# Altium footprint library LTE_GPS_433_V1.0.PcbLib: 60 footprints (part 2 of 4)
Each footprint in its own frame and in the unit in brackets; x right, y up, seen from the top. Pads: shape width x height; smd on the part's side, far side on the other; paste and mask are expansions set on the pad; w line width, h text height; cw(c..) or ccw(c..) is an arc to the next point about the centre after c.
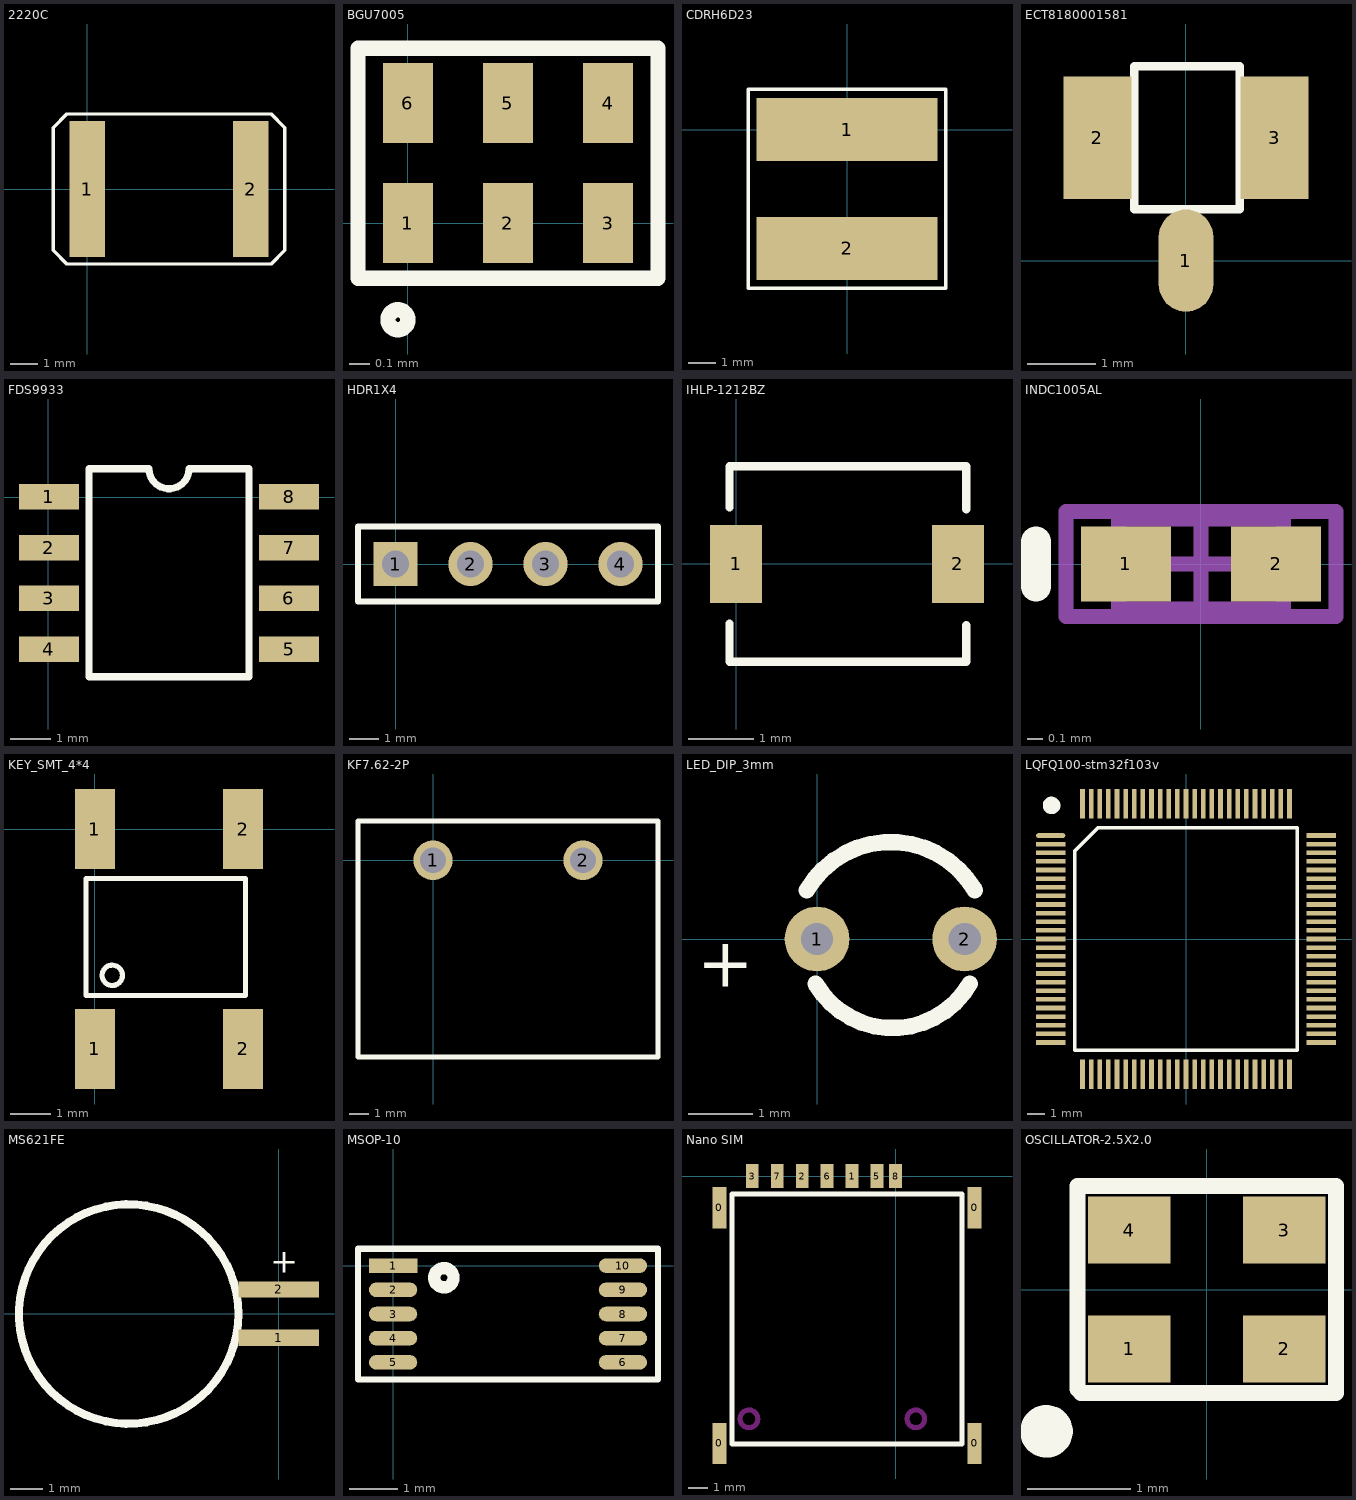
[diagram p1: the footprints below, top view; thin cyan lines are the x and y axes]

## 2220C [mm] "C"
height 5.1
pads (2):
  rect 1.3x5 smd: 1(0,0) 2(6,0)
Top Overlay:
  lines w0.127: -1.25,-2.25 -1.25,2.25 -0.75,2.75 6.75,2.75 7.25,2.25 7.25,-2.25 6.75,-2.75 -0.75,-2.75 -1.25,-2.25

## BGU7005 [mm]
pads (6):
  rect 0.25x0.4 smd: 1(0,0) 2(0.5,0) 3(1,0) 4(1,0.6) 5(0.5,0.6) 6(0,0.6)
Top Overlay:
  circle w0.076: c-0.05,-0.483 r0.05
  lines w0.076: -0.25,-0.275 1.25,-0.275 1.25,0.875 -0.25,0.875 -0.25,-0.275

## CDRH6D23 [mm]
pads (2):
  rect 6.5x2.26 smd: 1(0,0) 2(0,-4.25)
Top Overlay:
  lines w0.127: -3.531,-5.69 -3.531,1.448 3.531,1.448 3.531,-5.69 -3.531,-5.69

## ECT8180001581 [mm]
pads (3):
  oval 0.8x1.5 smd: 1(0,0)
  rect 1x1.8 smd: 2(-1.3,1.8) 3(1.3,1.8)
Top Overlay:
  lines w0.127: -0.759,0.753 -0.759,2.85 0.788,2.85 0.788,0.753 -0.759,0.753

## FDS9933 [mm]
height 1
pads (8):
  rect 1.5x0.635 smd: 1(0.015,0.008) 2(0.015,-1.262) 3(0.015,-2.532) 4(0.015,-3.802) 5(6.015,-3.802) 6(6.015,-2.532) 7(6.015,-1.262) 8(6.015,0.008)
Top Overlay:
  lines w0.178: 1.015,-4.492 1.015,0.708 2.515,0.708 ccw(c3.015,0.708) 3.515,0.708 5.015,0.708 5.015,-4.492 1.015,-4.492

## HDR1X4 [mm] "Connector; Header; 4 Position"
pads (4):
  rect 1.5x1.5 hole 0.9: 1(0,0)
  round 1.5 hole 0.9: 2(2.54,0) 3(5.08,0) 4(7.62,0)
Top Overlay:
  lines w0.2: -1.27,-1.27 -1.27,1.27 8.89,1.27 8.89,-1.27 -1.27,-1.27

## IHLP-1212BZ [mm]
pads (2):
  rect 0.8x1.2 smd: 1(0,0) 2(3.4,0)
Top Overlay:
  lines w0.127: -0.102,-0.914 -0.102,-1.501 3.531,-1.501 3.531,-0.94 ; -0.102,0.864 -0.102,1.499 3.531,1.499 3.531,0.838

## INDC1005AL [mm] "Chip Inductor, Body 1.0x0.5mm, IPC High Density"
height 0.55
pads (2):
  rect 0.6x0.5 smd: 1(-0.5,0) 2(0.5,0)
Top Overlay:
  lines w0.2: -1.1,-0.15 -1.1,0.15
Mechanical 13:
  lines w0.1: -0.55,-0.3 -0.55,0.3 0.55,0.3 0.55,-0.3 -0.55,-0.3
Mechanical 15:
  lines w0.1: -0.3,0 0.3,0 ; 0,-0.3 0,0.3 ; -0.9,-0.35 -0.9,0.35 0.9,0.35 0.9,-0.35 -0.9,-0.35
3D body: height 0.55, standoff 0, extent -0.55,-0.3 0.55,0.3

## KEY_SMT_4*4 [mm]
pads (4):
  rect 1x2 smd: 1(0,-5.5) 1(0,0) 2(3.7,-5.5) 2(3.7,0)
Top Overlay:
  circle w0.127: c0.432,-3.658 r0.254
  lines w0.127: -0.229,-4.166 3.759,-4.166 3.759,-1.24 -0.229,-1.24 -0.229,-4.166

## KF7.62-2P [mm]
pads (2):
  round 2 hole 1.3: 1(0,0) 2(7.62,0)
Top Overlay:
  lines w0.254: -3.81,-10 -3.81,2 11.43,2 11.43,-10 -3.81,-10

## LED_DIP_3mm [mm]
pads (2):
  round 1 hole 0.5: 1(0,0) 2(2.28,0)
Top Overlay:
  lines w0.254: -0.159,0.75 cw(c1.14,0) 2.439,0.75 ; -0.024,-0.688 ccw(c1.168,0) 2.361,-0.688
  text "+" at -1.854,-0.737 h0.76

## LQFQ100-stm32f103v [mm]
pads (100):
  oval 1.7x0.27 smd: 1(-7.85,6)
  rect 1.7x0.27 smd: 2(-7.85,5.5) 3(-7.85,5) 4(-7.85,4.5) 5(-7.85,4) 6(-7.85,3.5) 7(-7.85,3) 8(-7.85,2.5) 9(-7.85,2) 10(-7.85,1.5) 11(-7.85,1) 12(-7.85,0.5) 13(-7.85,0) 14(-7.85,-0.5) 15(-7.85,-1) 16(-7.85,-1.5) 17(-7.85,-2) 18(-7.85,-2.5) 19(-7.85,-3) 20(-7.85,-3.5) 21(-7.85,-4) 22(-7.85,-4.5) 23(-7.85,-5) 24(-7.85,-5.5) 25(-7.85,-6) 51(7.85,-6) 52(7.85,-5.5) 53(7.85,-5) 54(7.85,-4.5) 55(7.85,-4) 56(7.85,-3.5) 57(7.85,-3) 58(7.85,-2.5) 59(7.85,-2) 60(7.85,-1.5) 61(7.85,-1) 62(7.85,-0.5) 63(7.85,0) 64(7.85,0.5) 65(7.85,1) 66(7.85,1.5) 67(7.85,2) 68(7.85,2.5) 69(7.85,3) 70(7.85,3.5) 71(7.85,4) 72(7.85,4.5) 73(7.85,5) 74(7.85,5.5) 75(7.85,6)
  rect 0.27x1.7 smd: 26(-6,-7.85) 27(-5.5,-7.85) 28(-5,-7.85) 29(-4.5,-7.85) 30(-4,-7.85) 31(-3.5,-7.85) 32(-3,-7.85) 33(-2.5,-7.85) 34(-2,-7.85) 35(-1.5,-7.85) 36(-1,-7.85) 37(-0.5,-7.85) 38(0,-7.85) 39(0.5,-7.85) 40(1,-7.85) 41(1.5,-7.85) 42(2,-7.85) 43(2.5,-7.85) 44(3,-7.85) 45(3.5,-7.85) 46(4,-7.85) 47(4.5,-7.85) 48(5,-7.85) 49(5.5,-7.85) 50(6,-7.85) 76(6,7.85) 77(5.5,7.85) 78(5,7.85) 79(4.5,7.85) 80(4,7.85) 81(3.5,7.85) 82(3,7.85) 83(2.5,7.85) 84(2,7.85) 85(1.5,7.85) 86(1,7.85) 87(0.5,7.85) 88(0,7.85) 89(-0.5,7.85) 90(-1,7.85) 91(-1.5,7.85) 92(-2,7.85) 93(-2.5,7.85) 94(-3,7.85) 95(-3.5,7.85) 96(-4,7.85) 97(-4.5,7.85) 98(-5,7.85) 99(-5.5,7.85) 100(-6,7.85)
Top Overlay:
  circle w0.508: c-7.798,7.747 r0.254
  lines w0.2: -6.465,-6.465 6.465,-6.465 6.465,6.465 -5.08,6.465 -6.465,5.08 -6.465,-6.465

## MS621FE [mm]
pads (2):
  rect 2.5x0.5 smd: 1(0,-0.749) 2(0,0.749)
Top Overlay:
  circle w0.254: c-4.648,-0.013 r3.4
  text "+" at -0.254,1.27 h0.76

## MSOP-10 [mm]
pads (10):
  rect 1x0.3 smd: 1(0,0)
  oval 1x0.3 smd: 2(0,-0.5) 3(0,-1) 4(0,-1.5) 5(0,-2) 6(4.75,-2) 7(4.75,-1.5) 8(4.75,-1) 9(4.75,-0.5) 10(4.75,0)
Top Overlay:
  circle w0.254: c1.05,-0.25 r0.2
  lines w0.127: -0.725,-2.35 -0.725,0.35 5.475,0.35 5.475,-2.35 -0.725,-2.35

## Nano SIM [mm]
pads (11):
  rect 0.7x2.1 smd: 0(-8.97,-13.615) 0(-8.97,-1.615) 0(4.02,-13.615) 0(4.02,-1.615)
  rect 0.65x1.23 smd: 1(-2.22,0) 2(-4.76,0) 3(-7.3,0) 5(-0.95,0) 6(-3.49,0) 7(-6.03,0) 8(0,0)
Top Overlay:
  lines w0.254: -8.331,-13.64 -8.331,-0.914 3.378,-0.914 3.378,-13.64 -8.331,-13.64
Keep-Out Layer:
  circle w0.254: c1.03,-12.365 r0.45
  circle w0.254: c-7.47,-12.365 r0.45

## OSCILLATOR-2.5X2.0 [mm] "OSCILLATOR-3.2X2.5"
pads (4):
  rect 0.8x0.65 smd: 1(-0.75,-0.575) 2(0.75,-0.575) 3(0.75,0.575) 4(-0.75,0.575)
Top Overlay:
  circle w0.305: c-1.549,-1.372 r0.102
  lines w0.152: -1.25,-0.965 -1.25,1 1.25,1 1.25,-1 -1.215,-1 -1.25,-0.965